# EAGLE library part 1.27MM-SWD-CONNECTOR (library con-swd)
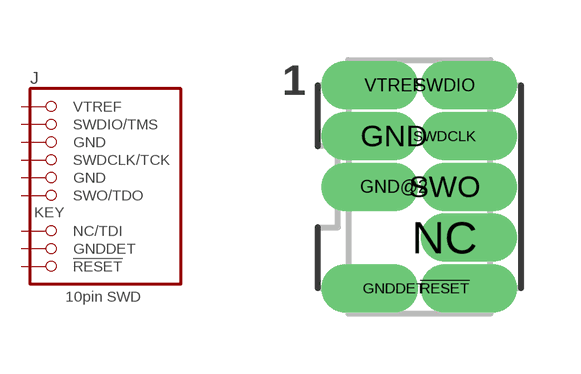
[diagram p0: symbol with the pads of 1.27MM_2X5; footprint 1.27MM_2X5]

Designator prefix J

## 1.27MM-SWD-CONNECTOR  [1.27MM_2X5]
!RESET  !RESET  pas
GND  GND  pas
GND@2  GND  pas
GNDDET  GNDDET  pas
NC  NC/TDI  pas
SWDCLK  SWDCLK/TCK  pas
SWDIO  SWDIO/TMS  pas
SWO  SWO/TDO  pas
VTREF  VTREF  pas

## Footprint 1.27MM_2X5 (pad centres in mm)
drill 0.7 pad 1.016 offset: !RESET 0.635,-2.54; GND -0.635,1.27; GND@2 -0.635,0; GNDDET -0.635,-2.54; NC 0.635,-1.27; SWDCLK 0.635,1.27; SWDIO 0.635,2.54; SWO 0.635,0; VTREF -0.635,2.54